# Altium schematic symbol library 医疗床PCB.SCHLIB: 67 symbols
Pins are listed as number, name and electrical type; pins without a type are passive.

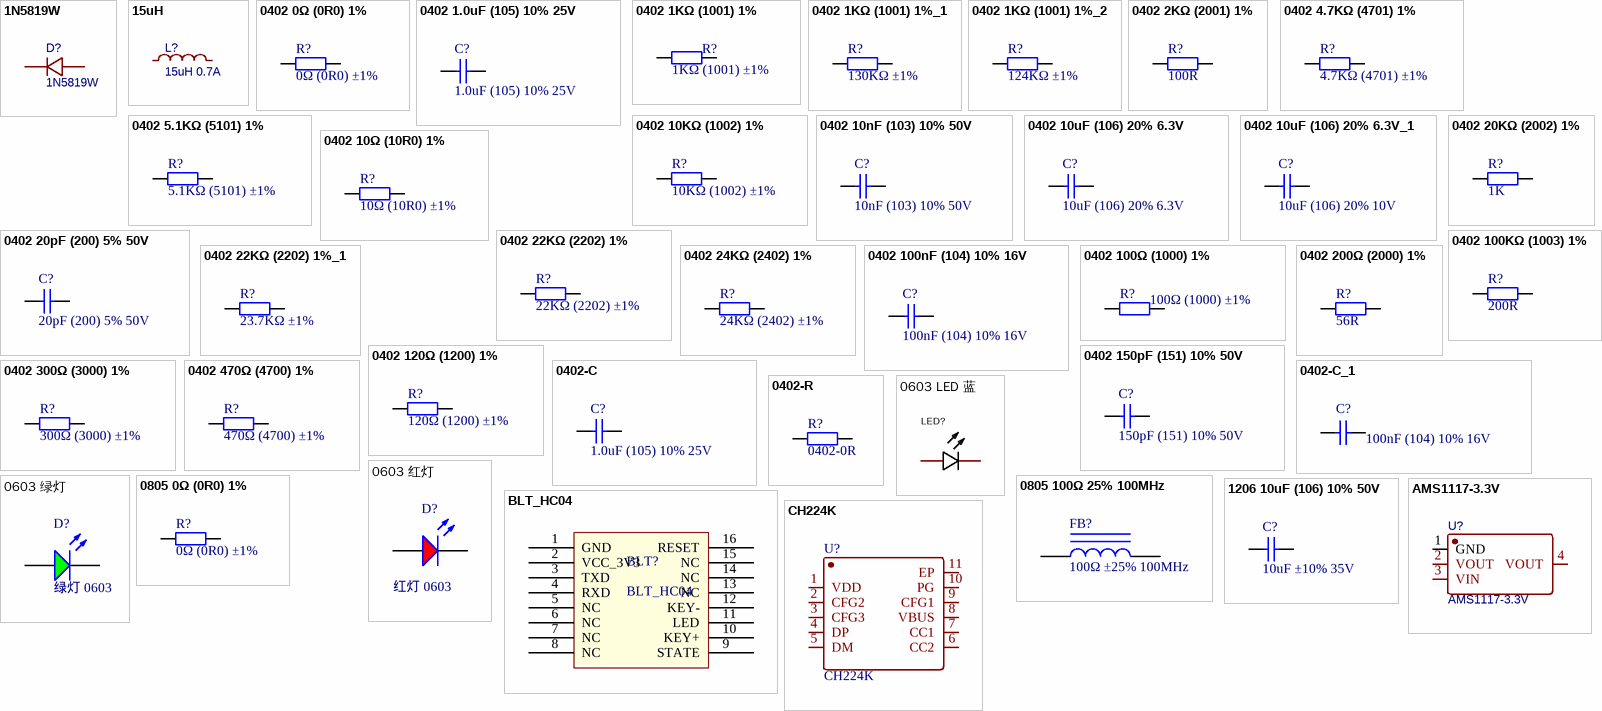
[diagram p0: symbols 1N5819W to CH224K]

## 1N5819W
designator D?
BOM_Manufacturer: FMS; BOM_Manufacturer Part: SS310-B; Contributor: LCSC; BOM_Supplier Part: C143200; BOM_Supplier: LCSC; BOM_JLCPCB Part Class: Extended Part; spicePre: D; spiceSymbolName: SS310-B
footprint SOD123
pins: 1, 2

## 15uH
designator L?, comment 15uH 0.7A
BOM_Manufacturer: Yanchuang(研创); BOM_Manufacturer Part: SCCD32-150KT; nameAlias: Inductance; Contributor: LCSC; BOM_Supplier: LCSC; BOM_Supplier Part: C532854; spicePre: L; spiceSymbolName: SCCD32-150KT
footprint IND-SMD_L3.5-W3.0
pins: 1, 2

## 0402 0Ω (0R0) 1%
designator R?, comment 0Ω (0R0) ±1%
贴片电阻; ComponentLink1Description: 供应商链接; ComponentLink1URL: http://www.szlcsc.com/product/details_17853.html; Package: 0402; Supplier: LC; SuppliersPartNumber: C17168
footprint 0402_R
pins: 1, 2

## 0402 1.0uF (105) 10% 25V
designator C?, comment 1.0uF (105) 10% 25V
贴片电容; ComponentLink1Description: 供应商链接; ComponentLink1URL: http://www.szlcsc.com/product/details_53938.html; Package: 0402; Supplier: LC; SuppliersPartNumber: C52923
footprint 0402_C
pins: 1, 2

## 0402 1KΩ (1001) 1%
designator R?, comment 1KΩ (1001) ±1%
贴片电阻; ComponentLink1Description: 供应商链接; ComponentLink1URL: http://www.szlcsc.com/product/details_12256.html; Package: 0402; Supplier: LC; SuppliersPartNumber: C11702
footprint 0402_R
pins: 1, 2

## 0402 1KΩ (1001) 1%_1
designator R?, comment 130KΩ ±1%
贴片电阻; ComponentLink1Description: 供应商链接; ComponentLink1URL: http://www.szlcsc.com/product/details_12256.html; Package: 0402; Supplier: LC; SuppliersPartNumber: C11702
footprint 0402_R
pins: 1, 2

## 0402 1KΩ (1001) 1%_2
designator R?, comment 124KΩ ±1%
贴片电阻; ComponentLink1Description: 供应商链接; ComponentLink1URL: http://www.szlcsc.com/product/details_12256.html; Package: 0402; Supplier: LC; SuppliersPartNumber: C11702
footprint 0402_R
pins: 1, 2

## 0402 2KΩ (2001) 1%
designator R?, comment 100R
贴片电阻; ComponentLink1Description: 供应商链接; ComponentLink1URL: http://www.szlcsc.com/product/details_4516.html; Package: 0402; Supplier: LC; SuppliersPartNumber: C4109
footprint 0402_R
pins: 1, 2

## 0402 4.7KΩ (4701) 1%
designator R?, comment 4.7KΩ (4701) ±1%
贴片电阻; ComponentLink1Description: 供应商链接; ComponentLink1URL: http://www.szlcsc.com/product/details_26643.html; Package: 0402; Supplier: LC; SuppliersPartNumber: C25900
footprint 0402_R
pins: 1, 2

## 0402 5.1KΩ (5101) 1%
designator R?, comment 5.1KΩ (5101) ±1%
贴片电阻; ComponentLink1Description: 供应商链接; ComponentLink1URL: http://www.szlcsc.com/product/details_26648.html; Package: 0402; Supplier: LC; SuppliersPartNumber: C25905
footprint 0402_R
pins: 1, 2

## 0402 10KΩ (1002) 1%
designator R?, comment 10KΩ (1002) ±1%
贴片电阻; ComponentLink1Description: 供应商链接; ComponentLink1URL: http://www.szlcsc.com/product/details_26487.html; Package: 0402; Supplier: LC; SuppliersPartNumber: C25744
footprint 0402_R
pins: 1, 2

## 0402 10nF (103) 10% 50V
designator C?, comment 10nF (103) 10% 50V
贴片电容; ComponentLink1Description: 供应商链接; ComponentLink1URL: http://www.szlcsc.com/product/details_15869.html; Package: 0402; Supplier: LC; SuppliersPartNumber: C15195
footprint 0402_C
pins: 1, 2

## 0402 10uF (106) 20% 6.3V
designator C?, comment 10uF (106) 20% 6.3V
贴片电容; ComponentLink1Description: 供应商链接; ComponentLink1URL: http://www.szlcsc.com/product/details_16204.html; Package: 0402; Supplier: LC; SuppliersPartNumber: C15525
footprint 0402_C
pins: 1, 2

## 0402 10uF (106) 20% 6.3V_1
designator C?, comment 10uF (106) 20% 10V
贴片电容; ComponentLink1Description: 供应商链接; ComponentLink1URL: http://www.szlcsc.com/product/details_16204.html; Package: 0402; Supplier: LC; SuppliersPartNumber: C15525
footprint 0402_C
pins: 1, 2

## 0402 10Ω (10R0) 1%
designator R?, comment 10Ω (10R0) ±1%
贴片电阻; ComponentLink1Description: 供应商链接; ComponentLink1URL: http://www.szlcsc.com/product/details_25820.html; Package: 0402; Supplier: LC; SuppliersPartNumber: C25077
footprint 0402_R
pins: 1, 2

## 0402 20KΩ (2002) 1%
designator R?, comment 1K
贴片电阻; ComponentLink1Description: 供应商链接; ComponentLink1URL: http://www.szlcsc.com/product/details_26508.html; Package: 0402; Supplier: LC; SuppliersPartNumber: C25765
footprint 0402_R
pins: 1, 2

## 0402 20pF (200) 5% 50V
designator C?, comment 20pF (200) 5% 50V
贴片电容; ComponentLink1Description: 供应商链接; ComponentLink1URL: http://www.szlcsc.com/product/details_1906.html; Package: 0402; Supplier: LC; SuppliersPartNumber: C1554
footprint 0402_C
pins: 1, 2

## 0402 22KΩ (2202) 1%
designator R?, comment 22KΩ (2202) ±1%
贴片电阻; ComponentLink1Description: 供应商链接; ComponentLink1URL: http://www.szlcsc.com/product/details_26511.html; Package: 0402; Supplier: LC; SuppliersPartNumber: C25768
footprint 0402_R
pins: 1, 2

## 0402 22KΩ (2202) 1%_1
designator R?, comment 23.7KΩ ±1%
贴片电阻; ComponentLink1Description: 供应商链接; ComponentLink1URL: http://www.szlcsc.com/product/details_26511.html; Package: 0402; Supplier: LC; SuppliersPartNumber: C25768
footprint 0402_R
pins: 1, 2

## 0402 24KΩ (2402) 1%
designator R?, comment 24KΩ (2402) ±1%
贴片电阻; ComponentLink1Description: 供应商链接; ComponentLink1URL: http://www.szlcsc.com/product/details_26512.html; Package: 0402; Supplier: LC; SuppliersPartNumber: C25769
footprint 0402_R
pins: 1, 2

## 0402 100KΩ (1003) 1%
designator R?, comment 200R
贴片电阻; ComponentLink1Description: 供应商链接; ComponentLink1URL: http://www.szlcsc.com/product/details_26484.html; Package: 0402; Supplier: LC; SuppliersPartNumber: C25741
footprint 0402_R
pins: 1, 2

## 0402 100nF (104) 10% 16V
designator C?, comment 100nF (104) 10% 16V
贴片电容; ComponentLink1Description: 供应商链接; ComponentLink1URL: http://www.szlcsc.com/product/details_1877.html; Package: 0402; Supplier: LC; SuppliersPartNumber: C1525
footprint 0402_C
pins: 1, 2

## 0402 100Ω (1000) 1%
designator R?, comment 100Ω (1000) ±1%
贴片电阻; ComponentLink1Description: 供应商链接; ComponentLink1URL: http://www.szlcsc.com/product/details_25819.html; Package: 0402; Supplier: LC; SuppliersPartNumber: C25076
footprint 0402_R
pins: 1, 2

## 0402 120Ω (1200) 1%
designator R?, comment 120Ω (1200) ±1%
贴片电阻; ComponentLink1Description: 供应商链接; ComponentLink1URL: http://www.szlcsc.com/product/details_25822.html; Package: 0402; Supplier: LC; SuppliersPartNumber: C25079
footprint 0402_R
pins: 1, 2

## 0402 150pF (151) 10% 50V
designator C?, comment 150pF (151) 10% 50V
贴片电容; ComponentLink1Description: 供应商链接; ComponentLink1URL: http://www.szlcsc.com/product/details_1879.html; Package: 0402; Supplier: LC; SuppliersPartNumber: C1527
footprint 0402_C
pins: 1, 2

## 0402 200Ω (2000) 1%
designator R?, comment 56R
贴片电阻; ComponentLink1Description: 供应商链接; ComponentLink1URL: http://www.szlcsc.com/product/details_25830.html; Package: 0402; Supplier: LC; SuppliersPartNumber: C25087
footprint 0402_R
pins: 1, 2

## 0402 300Ω (3000) 1%
designator R?, comment 300Ω (3000) ±1%
贴片电阻; ComponentLink1Description: 供应商链接; ComponentLink1URL: http://www.szlcsc.com/product/details_25845.html; Package: 0402; Supplier: LC; SuppliersPartNumber: C25102
footprint 0402_R
pins: 1, 2

## 0402 470Ω (4700) 1%
designator R?, comment 470Ω (4700) ±1%
贴片电阻; ComponentLink1Description: 供应商链接; ComponentLink1URL: http://www.szlcsc.com/product/details_25860.html; Package: 0402; Supplier: LC; SuppliersPartNumber: C25117
footprint 0402_R
pins: 1, 2

## 0402-C
designator C?, comment 1.0uF (105) 10% 25V
贴片电容
footprint C-0402
footprint 0402_C
pins: 1, 2

## 0402-C_1
designator C?, comment 100nF (104) 10% 16V
贴片电容
footprint C-0402
footprint 0402_C
pins: 1, 2

## 0402-R
designator R?, comment 0402-0R
贴片电阻
footprint R-0402
footprint 0402_R
pins: 1, 2

## 0603 LED 蓝
designator LED?, comment 0603  (value not drawn)
0603 LED 蓝; Manufacturer: 国星光电; Name: NCD0603B4; Symbol: FC-F1608BK-470H5; Add into BOM: yes; Emitted Color: 蓝灯; Device: NCD0603B4; LCSC Part Name: 蓝灯; Supplier Part: C89814; Manufacturer Part: NCD0603B4; Supplier Footprint: 0603; JLCPCB Part Class: Extended Part; Datasheet: https://atta.szlcsc.com/upload/public/pdf/source/20200820/C89814_3D11357C976AB31B19046E836063F91D.pdf; Supplier: LCSC; Convert to PCB: yes
footprint LED0603-RD
3D model LED0603-RD
pins: 1 A, 2 K

## 0603 红灯
designator D?, comment 红灯 0603
发光二极管; ComponentLink1Description: 供应商链接; ComponentLink1URL: http://www.szlcsc.com/product/details_2659.html; Package: 0603; Supplier: LC; SuppliersPartNumber: C2286
footprint 0603_LED_S1
pins: A, K

## 0603 绿灯
designator D?, comment 绿灯 0603
发光二极管; ComponentLink1Description: 供应商链接; ComponentLink1URL: http://www.szlcsc.com/product/details_73152.html; Package: 0603; Supplier: LC; SuppliersPartNumber: C72043
footprint 0603_LED_S1
pins: A, K

## 0805 0Ω (0R0) 1%
designator R?, comment 0Ω (0R0) ±1%
贴片电阻; ComponentLink1Description: 供应商链接; ComponentLink1URL: http://www.szlcsc.com/product/details_18165.html; Package: 0805; Supplier: LC; SuppliersPartNumber: C17477
footprint 0805_R
pins: 1, 2

## 0805 100Ω 25% 100MHz
designator FB?, comment 100Ω ±25% 100MHz
贴片磁珠; ComponentLink1Description: 供应商链接; ComponentLink1URL: http://www.szlcsc.com/product/details_1367.html; Package: 0805; Supplier: LC; SuppliersPartNumber: C1015
footprint 0805_L
pins: 1, 2

## 1206 10uF (106) 10% 50V
designator C?, comment 10uF ±10% 35V
贴片电容; ComponentLink1Description: 供应商链接; ComponentLink1URL: http://www.szlcsc.com/product/details_14236.html; Package: 1206; Supplier: LC; SuppliersPartNumber: C13585
footprint 1206_C
pins: 1, 2

## AMS1117-3.3V
designator U?
BOM_Manufacturer: FM; BOM_Manufacturer Part: SC1117-3.3V; Contributor: LCSC; BOM_Supplier: LCSC; BOM_Supplier Part: C173386; BOM_JLCPCB Part Class: Extended Part; spicePre: U; spiceSymbolName: SC1117-3.3V
footprint SOT-223_L6.5-W3.5-P2.30-LS7.0-BR
pins: 1 GND, 2 VOUT, 3 VIN, 4 VOUT

## BLT_HC04
designator BLT?
footprint HC04_BLT (Bluetooth_HC06)
pins: 1 GND, 2 VCC_3V3, 3 TXD, 4 RXD, 5 NC, 6 NC, 7 NC, 8 NC, 9 STATE, 10 KEY+, 11 LED, 12 KEY-, 13 NC, 14 NC, 15 NC, 16 RESET

## CH224K
designator U?
footprint ESOP-10_L4.9-W3.9-P1.00-LS6.2-BL-EP
pins: 1 VDD, 2 CFG2, 3 CFG3, 4 DP, 5 DM, 6 CC2, 7 CC1, 8 VBUS, 9 CFG1, 10 PG, 11 EP

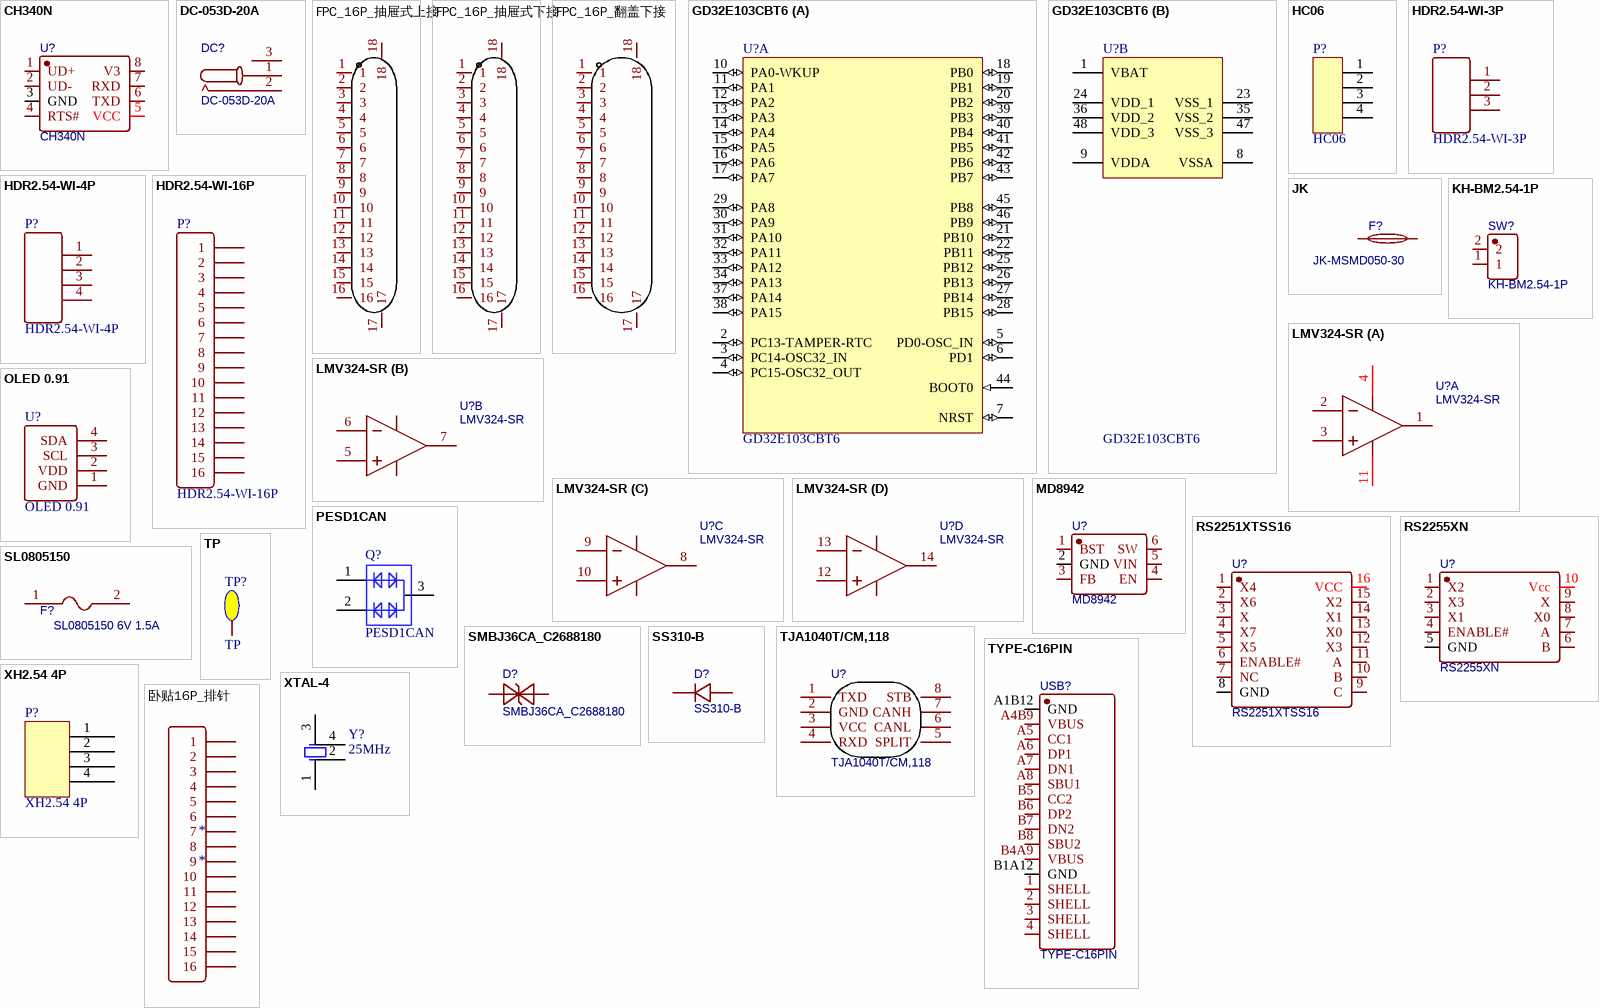
[diagram p1: symbols CH340N to 卧贴16P_排针]

## CH340N
designator U?
BOM_Manufacturer: WCH(Jiangsu Qin Heng); Contributor: LCSC; BOM_Supplier: LCSC; BOM_Supplier Part: C506813; BOM_Manufacturer Part: CH340N; BOM_JLCPCB Part Class: Extended Part; spicePre: U; spiceSymbolName: CH340N
footprint SOP-8_L5.0-W4.0-P1.27-LS6.0-BL
pins: 1 UD+, 2 UD-, 3 GND, 4 RTS#, 5 VCC, 6 TXD, 7 RXD, 8 V3

## DC-053D-20A
designator DC?
BOM_Manufacturer: 韩国韩荣; BOM_Manufacturer Part: DC-053D-25A; Contributor: LCSC; BOM_Supplier: LCSC; BOM_Supplier Part: C2686352; spicePre: D; spiceSymbolName: DC-053D-25A
footprint DC-053D-20A
pins: 1, 2, 3

## FPC_16P_抽屉式上接
designator FPC?, comment X10B25U16T  (value not drawn)
Manufacturer: XKB Connectivity(中国星坤); Add into BOM: yes; Pitch: 1mm; Number of Contacts: 16; Locking Feature: 抽屉式; FFC, FCB Thickness: 0.3mm; Welding Temperature (Max): 260℃; Name: X10B25U16T; Symbol: X10B25U16T; Device: X10B25U16T; LCSC Part Name: 1mm P数:16 抽屉式 上接 镀锡; Supplier Part: C500194; Manufacturer Part: X10B25U16T; Supplier Footprint: SMD,P=1mm; JLCPCB Part Class: Extended Part; Datasheet: https://atta.szlcsc.com/upload/public/pdf/source/20211011/E8BDE13A8FA62B089EE070F29D883999.pdf; Supplier: LCSC; Convert to PCB: yes; Mounting Type: 卧贴; Contact Type: 上接; Height Above Board: 2.5mm; Contact Material: 磷青铜; Contact Plating: 金; Operating Temperature Range: -40℃~+85℃
footprint FPC-SMD_X10B25U16T
3D model FPC-SMD_L23.0-W6.8-H2.5-X10B25U16T
pins: 1, 2, 3, 4, 5, 6, 7, 8, 9, 10, 11, 12, 13, 14, 15, 16, 17, 18

## FPC_16P_抽屉式下接
designator FPC?, comment 1.0K-FX-16PWB  (value not drawn)
Manufacturer: HDGC(华德共创); Add into BOM: yes; Pitch: 1mm; Number of Contacts: 16; Locking Feature: 抽屉式; FFC, FCB Thickness: 0.3mm; Name: 1.0K-FX-16PWB; Symbol: 1.0K-FX-16PWB; Device: 1.0K-FX-16PWB; LCSC Part Name: 1mm P数:16 抽屉式 下接; Supplier Part: C2914075; Manufacturer Part: 1.0K-FX-16PWB; Supplier Footprint: SMD,P=1mm; JLCPCB Part Class: Extended Part; Datasheet: https://atta.szlcsc.com/upload/public/pdf/source/20211102/926C0C24B01018ECCB068402A8A27F57.pdf; Supplier: LCSC; Convert to PCB: yes; Mounting Type: 卧贴; Contact Type: 下接; Height Above Board: 2.5mm; Operating Temperature Range: -20℃~+85℃
footprint FPC-SMD_16P-P1.00-HDGC_1.0K-FX-16PWB
3D model FPC-SMD_16P-P1.00-HDGC_1.0K-FX-16PWB
pins: 1, 2, 3, 4, 5, 6, 7, 8, 9, 10, 11, 12, 13, 14, 15, 16, 17, 18

## FPC_16P_翻盖下接
designator CN?, comment KH-FG1.0-H2.0-16PIN  (value not drawn)
Manufacturer: kinghelm(金航标); Add into BOM: yes; Pitch: 1mm; Number of Contacts: 16; Locking Feature: 翻盖式; FFC, FCB Thickness: 0.3mm; Name: KH-FG1.0-H2.0-16PIN; Symbol: KH-FG1.0-H2.0-16PIN; Device: KH-FG1.0-H2.0-16PIN; LCSC Part Name: 1mm P数:16 翻盖式 下接; Supplier Part: C2797229; Manufacturer Part: KH-FG1.0-H2.0-16PIN; Supplier Footprint: SMD,P=1mm; JLCPCB Part Class: Extended Part; Datasheet: https://atta.szlcsc.com/upload/public/pdf/source/20210409/C2797229_056AD649ACEB4D6EFD02DDA35E120470.pdf; Supplier: LCSC; Convert to PCB: yes; Mounting Type: 卧贴; Contact Type: 下接; Height Above Board: 2mm; Operating Temperature Range: -25℃~+85℃
3D model FPC-SMD_KH-FG1.0-H2.0-16PIN
footprint FPC-SMD_KH-FG1.0-H2.0-16PIN
pins: 1, 2, 3, 4, 5, 6, 7, 8, 9, 10, 11, 12, 13, 14, 15, 16, 17, 18

## GD32E103CBT6
designator U?
DatasheetVersion: rev13.0, Apr-2011; PackageVersion: rev13, Apr-2011; PackageReference: LQFP48; PackageDescription: 48-Pin Low-Profile Quad Flat Pack, 7 x 7 mm Body, 0.5 mm Pitch (LQFP48); ComponentLink1Description: Manufacturer URL; ComponentLink1URL: http://www.st.com/; ComponentLink2Description: STM32F103 Datasheet; ComponentLink2URL: http://www.st.com/internet/com/TECHNICAL_RESOURCES/TECHNICAL_LITERATURE/DATASHEET/CD00161566.pdf; ComponentLink3Description: STM32 Family Web Page; ComponentLink3URL: www.st.com/stm32
footprint LQFP48_N
part A pins: 2 PC13-TAMPER-RTC (io), 3 PC14-OSC32_IN (io), 4 PC15-OSC32_OUT (io), 5 PD0-OSC_IN (io), 6 PD1 (io), 7 NRST (io), 10 PA0-WKUP (io), 11 PA1 (io), 12 PA2 (io), 13 PA3 (io), 14 PA4 (io), 15 PA5 (io), 16 PA6 (io), 17 PA7 (io), 18 PB0 (io), 19 PB1 (io), 20 PB2 (io), 21 PB10 (io), 22 PB11 (io), 25 PB12 (io), 26 PB13 (io), 27 PB14 (io), 28 PB15 (io), 29 PA8 (io), 30 PA9 (io), 31 PA10 (io), 32 PA11 (io), 33 PA12 (io), 34 PA13 (io), 37 PA14 (io), 38 PA15 (io), 39 PB3 (io), 40 PB4 (io), 41 PB5 (io), 42 PB6 (io), 43 PB7 (io), 44 BOOT0 (in), 45 PB8 (io), 46 PB9 (io)
part B pins: 1 VBAT (power), 8 VSSA (power), 9 VDDA (power), 23 VSS_1 (power), 24 VDD_1 (power), 35 VSS_2 (power), 36 VDD_2 (power), 47 VSS_3 (power), 48 VDD_3 (power)

## HC06
designator P?
footprint HC06
pins: 1, 2, 3, 4

## HDR2.54-WI-3P
designator P?
footprint HDR2.54-WI-3P (弯脚排针，3脚)
pins: 1, 2, 3

## HDR2.54-WI-4P
designator P?
footprint HDR2.54-WI-4P (弯脚排针，4脚)
pins: 1, 2, 3, 4

## HDR2.54-WI-16P
designator P?
footprint HDR2.54-WI-16P (弯脚排针，16脚)
pins: 1, 2, 3, 4, 5, 6, 7, 8, 9, 10, 11, 12, 13, 14, 15, 16

## JK
designator F?, comment JK-MSMD050-30
BOM_Manufacturer: Jinrui Electronic Materials Co.; BOM_Manufacturer Part: JK-SMD1210-050; Contributor: LCSC; BOM_Supplier: LCSC; BOM_Supplier Part: C409805; BOM_JLCPCB Part Class: Extended Part; spicePre: F; spiceSymbolName: JK-SMD1210-050
footprint F1210
footprint F2920
footprint F1812
footprint F0805
pins: 1, 2

## KH-BM2.54-1P
designator SW?
BOM_Manufacturer: kinghelm(金航标); Contributor: LCSC; BOM_Supplier: LCSC; BOM_Supplier Part: C2842893; BOM_Manufacturer Part: KH-BM2.54-1P; BOM_JLCPCB Part Class: Extended Part; spicePre: S; spiceSymbolName: KH-BM2.54-1P
footprint SW-TH_KH-BM2.54-1P
pins: 1, 2

## LMV324-SR
designator U?
BOM_Manufacturer: IDCHIP; BOM_Manufacturer Part: LMV324; subpart_no: 3; BOM_Supplier: LCSC; BOM_Supplier Part: C395458; BOM_JLCPCB Part Class: Extended Part; spicePre: U; spiceSymbolName: LMV324
footprint SOP-14_L8.6-W3.9-P1.27-LS6.0-BL
part A pins: 1 1OUT, 2 1IN-, 3 1IN+, 4 VCC, 11 GND
part B pins: 5 2IN+, 6 2IN-, 7 2OUT
part C pins: 8 3OUT, 9 3IN-, 10 3IN+
part D pins: 12 4IN+, 13 4IN-, 14 4OUT

## MD8942
designator U?
BOM_Manufacturer: 明达微; Contributor: LCSC; BOM_Supplier: LCSC; BOM_Supplier Part: C2684786; BOM_Manufacturer Part: MD8942; BOM_JLCPCB Part Class: Extended Part; spicePre: U; spiceSymbolName: MD8942
footprint SOT-23-6_L2.9-W1.6-P0.95-LS2.8-BR
pins: 1 BST, 2 GND, 3 FB, 4 EN, 5 VIN, 6 SW

## OLED 0.91
designator U?
footprint OLED 0.91
pins: 1 GND, 2 VDD, 3 SCL, 4 SDA

## PESD1CAN
designator Q?
CAN BUS ESD
footprint SOT-23(SOT-23-3)
pins: 1, 2, 3

## RS2251XTSS16
designator U?
BOM_Manufacturer: RUNIC(润石); Contributor: LCSC; BOM_Supplier: LCSC; BOM_Supplier Part: C1323227; BOM_Manufacturer Part: RS2251XTSS16; BOM_JLCPCB Part Class: Extended Part; spicePre: U; spiceSymbolName: RS2251XTSS16
footprint TSSOP-16_L5.0-W4.4-P0.65-LS6.4-BL
pins: 1 X4, 2 X6, 3 X, 4 X7, 5 X5, 6 ENABLE#, 7 NC, 8 GND, 9 C, 10 B, 11 A, 12 X3, 13 X0, 14 X1, 15 X2, 16 VCC

## RS2255XN
designator U?
BOM_Manufacturer: Jiangsu RUNIC Tech; Contributor: LCSC; BOM_Supplier: LCSC; BOM_Supplier Part: C783421; BOM_Manufacturer Part: RS2255XN; BOM_JLCPCB Part Class: Extended Part; spicePre: U; spiceSymbolName: RS2255XN
footprint MSOP-10_L3.0-W3.0-P0.50-LS5.0-BL
pins: 1 X2, 2 X3, 3 X1, 4 ENABLE#, 5 GND, 6 B, 7 A, 8 X0, 9 X, 10 Vcc

## SL0805150
designator F?, comment SL0805150 6V 1.5A
BOM_Manufacturer: TECHFUSE; BOM_Supplier: LCSC; BOM_Manufacturer Part: SL0805150; BOM_Supplier Part: C70156; BOM_JLCPCB Part Class: Extended Part; spicePre: F; spiceSymbolName: SL0805150
footprint F0805
pins: 1, 2

## SMBJ36CA_C2688180
designator D?
BOM_Manufacturer: WPMtek(维攀微); Contributor: LCSC; BOM_Supplier: LCSC; BOM_Supplier Part: C2688180; BOM_Manufacturer Part: SMBJ36CA; BOM_JLCPCB Part Class: Extended Part; spicePre: D; spiceSymbolName: SMBJ36CA_C2688180
footprint SMB_L4.5-W3.6-LS5.3-BI
pins: 1, 2

## SS310-B
designator D?
BOM_Manufacturer: FMS; Contributor: LCSC; BOM_Supplier Part: C143200; BOM_Supplier: LCSC; BOM_Manufacturer Part: SS310-B; BOM_JLCPCB Part Class: Extended Part; spicePre: D; spiceSymbolName: SS310-B
footprint SMB_L4.6-W3.6-LS5.3-RD-DO-214AA
pins: 1, 2

## TJA1040T/CM,118
designator U?
BOM_Manufacturer: NXP; BOM_Supplier: LCSC; BOM_Manufacturer Part: TJA1040T/CM,118; BOM_Supplier Part: C6951; BOM_JLCPCB Part Class: Basic Part; spicePre: U; spiceSymbolName: TJA1040T/CM,118
footprint SOIC-8_L5.0-W4.0-P1.27-LS6.0-BL
pins: 1 TXD, 2 GND, 3 VCC, 4 RXD, 5 SPLIT, 6 CANL, 7 CANH, 8 STB

## TP
designator TP?
footprint TP_1X1MM
pins: 1

## TYPE-C16PIN
designator USB?
BOM_Manufacturer: SHOU HAN; Contributor: LCSC; BOM_Supplier: LCSC; BOM_Supplier Part: C393939; BOM_Manufacturer Part: TYPE-C16PIN; BOM_JLCPCB Part Class: Extended Part; spicePre: U; spiceSymbolName: TYPE-C16PIN
footprint USB-C-SMD_TYPE-C16PIN
pins: 1 SHELL, 2 SHELL, 3 SHELL, 4 SHELL, A1B12 GND, A4B9 VBUS, A5 CC1, A6 DP1, A7 DN1, A8 SBU1, B1A12 GND, B4A9 VBUS, B5 CC2, B6 DP2, B7 DN2, B8 SBU2

## XH2.54 4P
designator P?
footprint HC06
pins: 1, 2, 3, 4

## XTAL-4
designator Y?, comment 25MHz
Crystal Oscillator; Published: 8-Jun-2000; LatestRevisionDate: 17-Jul-2002; LatestRevisionNote: Re-released for DXP Platform.; PackageReference: R38; Publisher: Altium Limited; PackageDescription: Crystal, Thru-Hole; 2 Leads; Body 3.1 x 8.2 mm (Dia.xH)
simulation model XTAL (Spice Subcircuit)
footprint 3225
footprint 3225
footprint 3225
pins: 1 OSC2, 2 HIN4, 3 OSC1, 4 HIN4

## 卧贴16P_排针
designator *
footprint CONN-SMD_16PINS (16PINS_Horizontal Surface Mount_Switch arrangement)
pins: 1, 2, 3, 4, 5, 6, 7, 8, 9, 10, 11, 12, 13, 14, 15, 16